# Altium footprint library PcbLib.PcbLib: 26 footprints (part 2 of 2)
Each footprint in its own frame and in the unit in brackets; x right, y up, seen from the top. Pads: shape width x height; smd on the part's side, far side on the other; paste and mask are expansions set on the pad; w line width, h text height; cw(c..) or ccw(c..) is an arc to the next point about the centre after c.
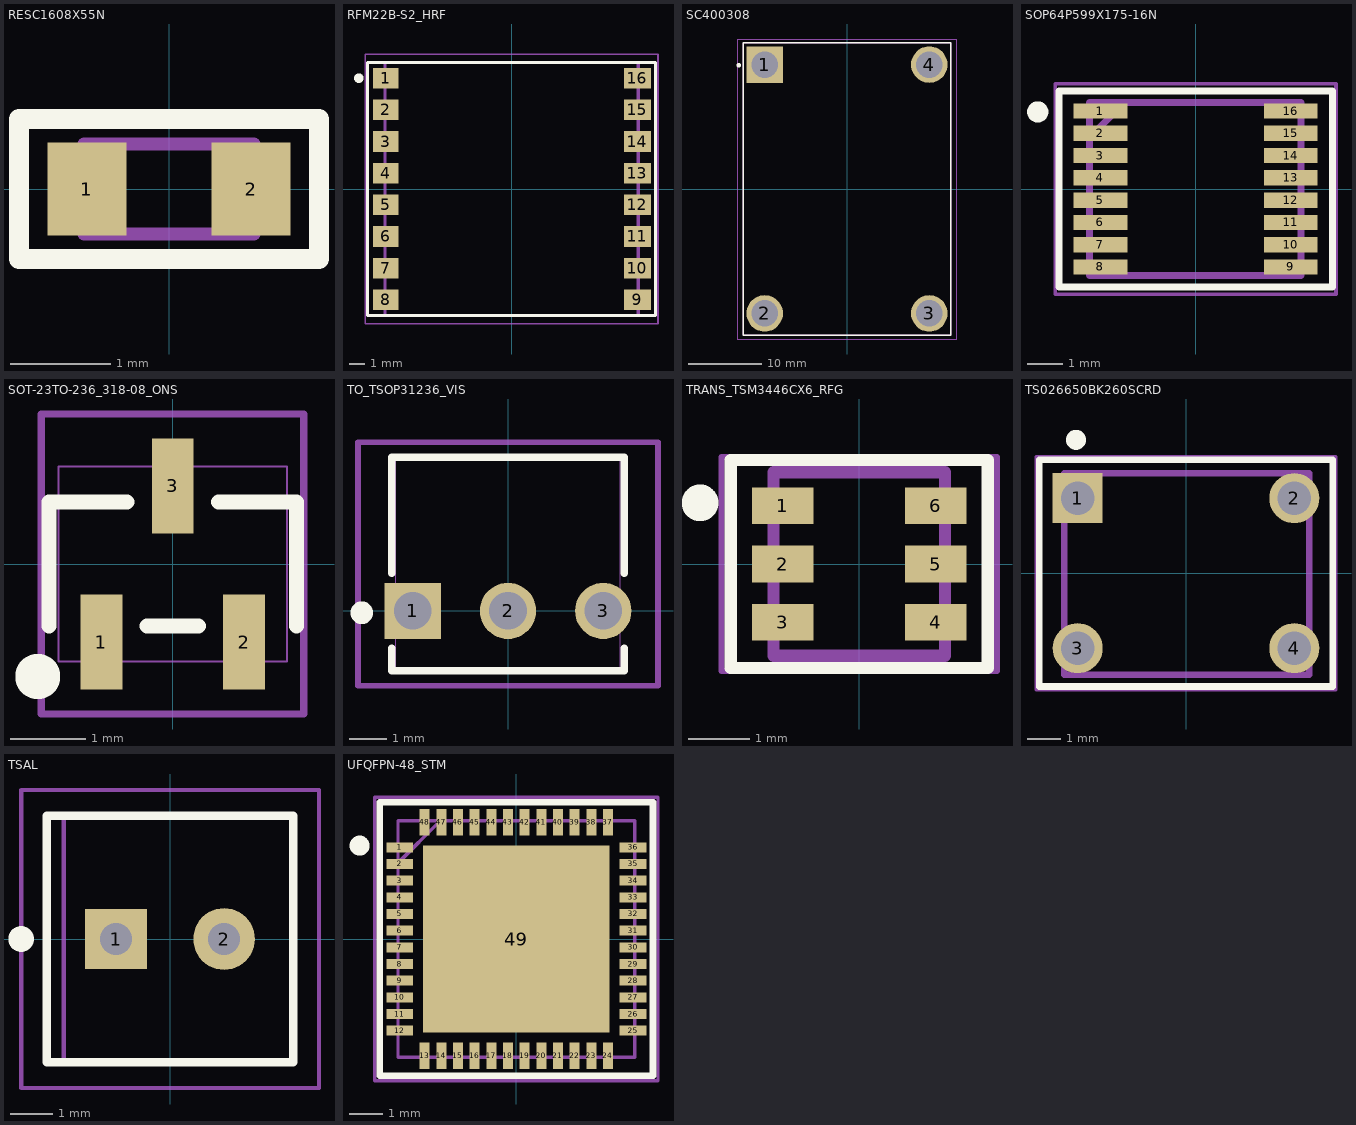
[diagram p1: the footprints below, top view; thin cyan lines are the x and y axes]

## RESC1608X55N [mm] "Resistors"
pads (2):
  rect 0.79x0.93 smd: 1(-0.82,0) 2(0.82,0)
Top Overlay:
  lines w0.2: -1.5,-0.7 -1.5,0.7 1.5,0.7 1.5,-0.7 -1.5,-0.7
Top Assembly:
  lines w0.127: -0.85,-0.45 0.85,-0.45 0.85,0.45 -0.85,0.45 -0.85,-0.45
Top Courtyard:
  lines w0.1: -1.5,-0.7 -1.5,0.7 1.5,0.7 1.5,-0.7 -1.5,-0.7
3D body "RC0603JR-0710KP.step": height 0.43, standoff -0.02, extent -0.8,-0.4 0.8,0.4

## RFM22B-S2_HRF [mm] "RFM22"
height 4.9
pads (16):
  rect 1.6x1.3 smd: 1(-7.95,7) 2(-7.95,5) 3(-7.95,3) 4(-7.95,1) 5(-7.95,-1) 6(-7.95,-3) 7(-7.95,-5) 8(-7.95,-7)
  rect 1.7x1.3 smd: 9(7.95,-7) 10(7.95,-5) 11(7.95,-3) 12(7.95,-1) 13(7.95,1) 14(7.95,3) 15(7.95,5) 16(7.95,7)
Top Overlay:
  lines w0.2: -9.1,-8 -9.1,8 9.1,8 9.1,-8 -9.1,-8
  lines w0.5: -9.65,6.95 ccw(c-9.65,7) -9.65,7.05 ccw(c-9.65,7) -9.65,6.95
Top Assembly:
  lines w0.2: -8,-8 -8,8 8,8 8,-8 -8,-8
Top Courtyard:
  lines w0.1: -9.25,-8.5 9.25,-8.5 9.25,8.5 -9.25,8.5 -9.25,-8.5
3D body "RFM22B-S2_HRF.step": height 1.91, standoff 0, extent -8.001,-8.001 8.001,8.001

## SC400308 [mm] "Speaker"
height 12
pads (4):
  rect 5x5 hole 3.6: 1(-11.25,17)
  round 5 hole 3.6: 2(-11.25,-17) 3(11.25,-17) 4(11.25,17)
Top Overlay:
  lines w0.2: -14.2,-20 -14.2,20 14.2,20 14.2,-20 -14.2,-20
  lines w0.5: -14.8,16.85 ccw(c-14.8,16.9) -14.8,16.95 ccw(c-14.8,16.9) -14.8,16.85
Top Assembly:
  lines w0.2: -14.2,-20 -14.2,20 14.2,20 14.2,-20 -14.2,-20
Top Courtyard:
  lines w0.1: -15,-20.5 15,-20.5 15,20.5 -15,20.5 -15,-20.5
3D body "CMS-402811-28SP.stp": height 3.3, standoff -8.2, extent -14.15,-20 14.15,20

## SOP64P599X175-16N [mm] "FT230XS-U"
height 1.753
pads (16):
  rect 1.526x0.435 smd: 1(-2.712,2.222) 2(-2.712,1.588) 3(-2.712,0.952) 4(-2.712,0.318) 5(-2.712,-0.318) 6(-2.712,-0.952) 7(-2.712,-1.588) 8(-2.712,-2.222) 9(2.712,-2.222) 10(2.712,-1.588) 11(2.712,-0.952) 12(2.712,-0.318) 13(2.712,0.318) 14(2.712,0.952) 15(2.712,1.588) 16(2.712,2.222)
Top Overlay:
  lines w0.2: -3.9,-2.794 -3.9,2.794 3.9,2.794 3.9,-2.794 -3.9,-2.794
  lines w0.5: -4.5,2.15 cw(c-4.5,2.2) -4.5,2.25 cw(c-4.5,2.2) -4.5,2.15
Top Assembly:
  lines w0.2: -3.023,1.473 -2.032,2.464 ; -3.023,-2.464 -3.023,2.464 2.997,2.464 2.997,-2.464 -3.023,-2.464
Top Courtyard:
  lines w0.1: -4,-3 -4,3 4,3 4,-3 -4,-3
3D body "FT230XS-U.stp": height 1.75, standoff 0, extent -2.997,-2.451 2.997,2.451

## SOT-23TO-236_318-08_ONS [mil] "BC848 Transistor"
pads (3):
  rect 22x50 smd paste+0: 1(-37.5,-41) 2(37.5,-41) 3(0,41)
Top Overlay:
  lines w7.87: -65,-32.5 -65,32.5 -24.1,32.5 ; -13.4,-32.5 13.4,-32.5 ; 24.1,32.5 65,32.5 65,-32.5
  lines w19.68: -70.87,-61.02 cw(c-70.87,-59.06) -70.87,-57.09 cw(c-70.87,-59.06) -70.87,-61.02
Top Assembly:
  lines w1: -60,-51.18 60,-51.18 60,51.18 -60,51.18 -60,-51.18
Top Courtyard:
  lines w3.94: -68.9,-78.74 68.9,-78.74 68.9,78.74 -68.9,78.74 -68.9,-78.74
3D body "SOT-23TO-236_318-08_ONS.step": height 44.09, standoff 0, extent -60,-52.01 60,52.01

## TO_TSOP31236_VIS [mm] "IR Receiver"
height 30.5
pads (3):
  rect 1.5x1.5 hole 1: 1(-2.54,0)
  round 1.5 hole 1: 2(0,0) 3(2.54,0)
Top Overlay:
  lines w0.2: -3.1,-1 -3.1,-1.6 3.1,-1.6 3.1,-1 ; -3.1,1 -3.1,4.1 3.1,4.1 3.1,1
  lines w0.5: -3.9,-0.1 cw(c-3.9,-0.05) -3.9,0 cw(c-3.9,-0.05) -3.9,-0.1
Top Assembly:
  lines w0.025: -2.997,-1.549 2.997,-1.549 2.997,4.039 -2.997,4.039 -2.997,-1.549
Top Courtyard:
  lines w0.152: -4,-2 4,-2 4,4.5 -4,4.5 -4,-2
3D body "82720Mold_SS.stp": height 8.7, standoff -21.8, extent -3.04,-1.5 2.96,4.05

## TRANS_TSM3446CX6_RFG [mm] "MOSFET"
height 1.45
pads (6):
  rect 1x0.6 smd: 1(-1.251,0.95) 2(-1.251,0) 3(-1.251,-0.95) 4(1.251,-0.95) 5(1.251,0) 6(1.25,0.95)
Top Overlay:
  lines w0.2: -2.1,-1.7 -2.1,1.7 2.1,1.7 2.1,-1.7 -2.1,-1.7
  lines w0.5: -2.6,0.95 cw(c-2.6,1) -2.6,1.05 cw(c-2.6,1) -2.6,0.95
Top Assembly:
  lines w0.2: -1.4,-1.5 -1.4,1.5 1.4,1.5 1.4,-1.5 -1.4,-1.5
Top Courtyard:
  lines w0.1: -2.25,-1.75 -2.25,1.75 2.25,1.75 2.25,-1.75 -2.25,-1.75
3D body "TSM3446CX6_RFG.step": height 1.45, standoff 0, extent -1.4,-1.45 1.4,1.45

## TS026650BK260SCRD [mm] "Button"
pads (4):
  rect 1.5x1.5 hole 1: 1(-3.25,2.25)
  round 1.5 hole 1: 2(3.25,2.25) 3(-3.25,-2.25) 4(3.25,-2.25)
Top Overlay:
  lines w0.2: -4.4,-3.4 -4.4,3.4 4.4,3.4 4.4,-3.4 -4.4,-3.4
  lines w0.5: -3.3,3.95 ccw(c-3.3,4) -3.3,4.05 ccw(c-3.3,4) -3.3,3.95
Top Assembly:
  lines w0.2: -3.65,-3.05 3.7,-3.05 3.7,3 -3.65,3 -3.65,-3.05
Top Courtyard:
  lines w0.1: -4.5,-3.5 4.5,-3.5 4.5,3.5 -4.5,3.5 -4.5,-3.5
3D body "TS02-66-50-BK-260-SCR-D.stp": height 5.3, standoff -5, extent -3.65,-3.075 3.65,2.925

## TSAL [mm] "IR Diode"
height 35.2
pads (2):
  rect 1.45x1.416 hole 0.75: 1(-1.27,0)
  round 1.45 hole 0.75: 2(1.27,0)
Top Overlay:
  lines w0.2: -2.9,-2.9 2.9,-2.9 2.9,2.9 -2.9,2.9 -2.9,-2.9
  lines w0.5: -3.5,-0.05 cw(c-3.5,0) -3.5,0.05 cw(c-3.5,0) -3.5,-0.05
Top Assembly:
  lines w0.1: -2.5,-2.9 2.9,-2.9 2.9,2.9 -2.5,2.9 -2.5,-2.9
Top Courtyard:
  lines w0.1: -3.5,-3.5 -3.5,3.5 3.5,3.5 3.5,-3.5 -3.5,-3.5
3D body "TSAL6100.stp": height 13.7, standoff -21.5, extent -2.5,-2.9 2.884,2.9

## UFQFPN-48_STM [mm] "STM32"
pads (49):
  rect 0.8x0.3 smd paste+0 mask+0: 1(-3.5,2.751) 2(-3.5,2.251) 3(-3.5,1.75) 4(-3.5,1.25) 5(-3.5,0.75) 6(-3.5,0.25) 7(-3.5,-0.25) 8(-3.5,-0.75) 9(-3.5,-1.25) 10(-3.5,-1.75) 11(-3.5,-2.251) 12(-3.5,-2.751) 25(3.5,-2.751) 26(3.5,-2.251) 27(3.5,-1.75) 28(3.5,-1.25) 29(3.5,-0.75) 30(3.5,-0.25) 31(3.5,0.25) 32(3.5,0.75) 33(3.5,1.25) 34(3.5,1.75) 35(3.5,2.251) 36(3.5,2.751)
  rect 0.3x0.8 smd mask+0: 13(-2.75,-3.5)
  rect 0.3x0.8 smd paste+0 mask+0: 14(-2.25,-3.5) 15(-1.75,-3.5) 16(-1.25,-3.5) 17(-0.75,-3.5) 18(-0.25,-3.5) 19(0.25,-3.5) 20(0.75,-3.5) 21(1.25,-3.5) 22(1.75,-3.5) 23(2.25,-3.5) 24(2.75,-3.5) 37(2.75,3.5) 38(2.25,3.5) 39(1.75,3.5) 40(1.25,3.5) 41(0.75,3.5) 42(0.25,3.5) 43(-0.25,3.5) 44(-0.75,3.5) 45(-1.25,3.5) 46(-1.75,3.5) 47(-2.25,3.5) 48(-2.75,3.5)
  rect 5.6x5.6 smd paste-2.787 mask+0: 49(0,0)
Top Layer:
  region: 0,-2.8
  region: 0,2.8
Top Overlay:
  lines w0.2: -4.1,-4.1 4.1,-4.1 4.1,4.1 -4.1,4.1 -4.1,-4.1
  lines w0.5: -4.7,2.75 cw(c-4.7,2.8) -4.7,2.85 cw(c-4.7,2.8) -4.7,2.75
Top Paste:
  region: 0,-2.8
  region: 0,-2.8
  region: 0,2.8
  region: 0,2.8
  region: 2.7,-1.5 1.5,-1.5 1.5,-2.7 2.7,-2.7
  region: 2.7,-0.1 1.5,-0.1 1.5,-1.3 2.7,-1.3
  region: 2.7,1.3 1.5,1.3 1.5,0.1 2.7,0.1
  region: 2.7,2.7 1.5,2.7 1.5,1.5 2.7,1.5
  region: 1.3,-1.5 0.1,-1.5 0.1,-2.7 1.3,-2.7
  region: 1.3,-0.1 0.1,-0.1 0.1,-1.3 1.3,-1.3
  region: 1.3,1.3 0.1,1.3 0.1,0.1 1.3,0.1
  region: 1.3,2.7 0.1,2.7 0.1,1.5 1.3,1.5
  region: -0.1,-1.5 -1.3,-1.5 -1.3,-2.7 -0.1,-2.7
  region: -0.1,-0.1 -1.3,-0.1 -1.3,-1.3 -0.1,-1.3
  region: -0.1,1.3 -1.3,1.3 -1.3,0.1 -0.1,0.1
  region: -0.1,2.7 -1.3,2.7 -1.3,1.5 -0.1,1.5
  region: -1.5,-1.5 -2.7,-1.5 -2.7,-2.7 -1.5,-2.7
  region: -1.5,-0.1 -2.7,-0.1 -2.7,-1.3 -1.5,-1.3
  region: -1.5,1.3 -2.7,1.3 -2.7,0.1 -1.5,0.1
  region: -1.5,2.7 -2.7,2.7 -2.7,1.5 -1.5,1.5
Top Solder:
  region: 0,-2.8
  region: 0,2.8
Top Assembly:
  lines w0.1: -3.55,2.28 -2.28,3.55 ; -3.55,-3.55 3.55,-3.55 3.55,3.55 -3.55,3.55 -3.55,-3.55
Top Courtyard:
  lines w0.1: -4.25,-4.25 4.25,-4.25 4.25,4.25 -4.25,4.25 -4.25,-4.25
3D body "STM32U545CEU6Q.step": height 0.6, standoff 0, extent -3.55,-3.55 3.55,3.55